# EAGLE library part TEA1791 (library nxp_60_1_1)
The TEA1791AT is a member of the new generation of Synchronous Rectifier (SR) controller ICs for switched mode power supplies. Its high level of integration allows the design of a cost-effective power supply with a very low number of external components. AAL Eindhoven MK
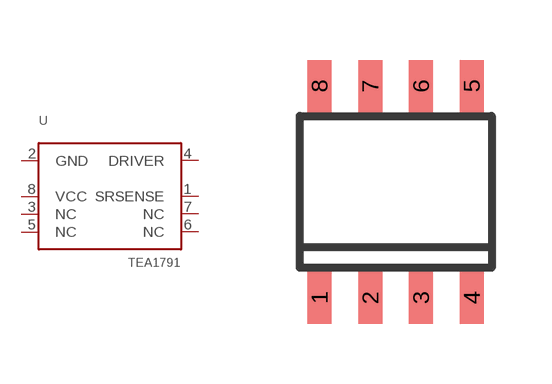
[diagram p33: symbol with the pads of SOT96-1; footprint SOT96-1]

Designator prefix U

## TEA1791AT (12NC: 9352 901 57118)  [SOT96-1]
1  SRSENSE
2  GND  pwr
3  NC
4  DRIVER  out
5  NC
6  NC
7  NC
8  VCC  pwr

## Footprint SOT96-1 (pad centres in mm)
SOT96-1 SO8: plastic small outline package; 8 leads; body width 3.9 mm JEDEC: MS-012 IEC: 076E03
smd 0.6 x 1.3: 1 -1.905,-2.65; 2 -0.635,-2.65; 3 0.635,-2.65; 4 1.905,-2.65; 5 1.905,2.65; 6 0.635,2.65; 7 -0.635,2.65; 8 -1.905,2.65